# Altium integrated library Analog Devices Data Converters Digital-to-Analog Converters.IntLib: 2231 symbols (part 178 of 181)
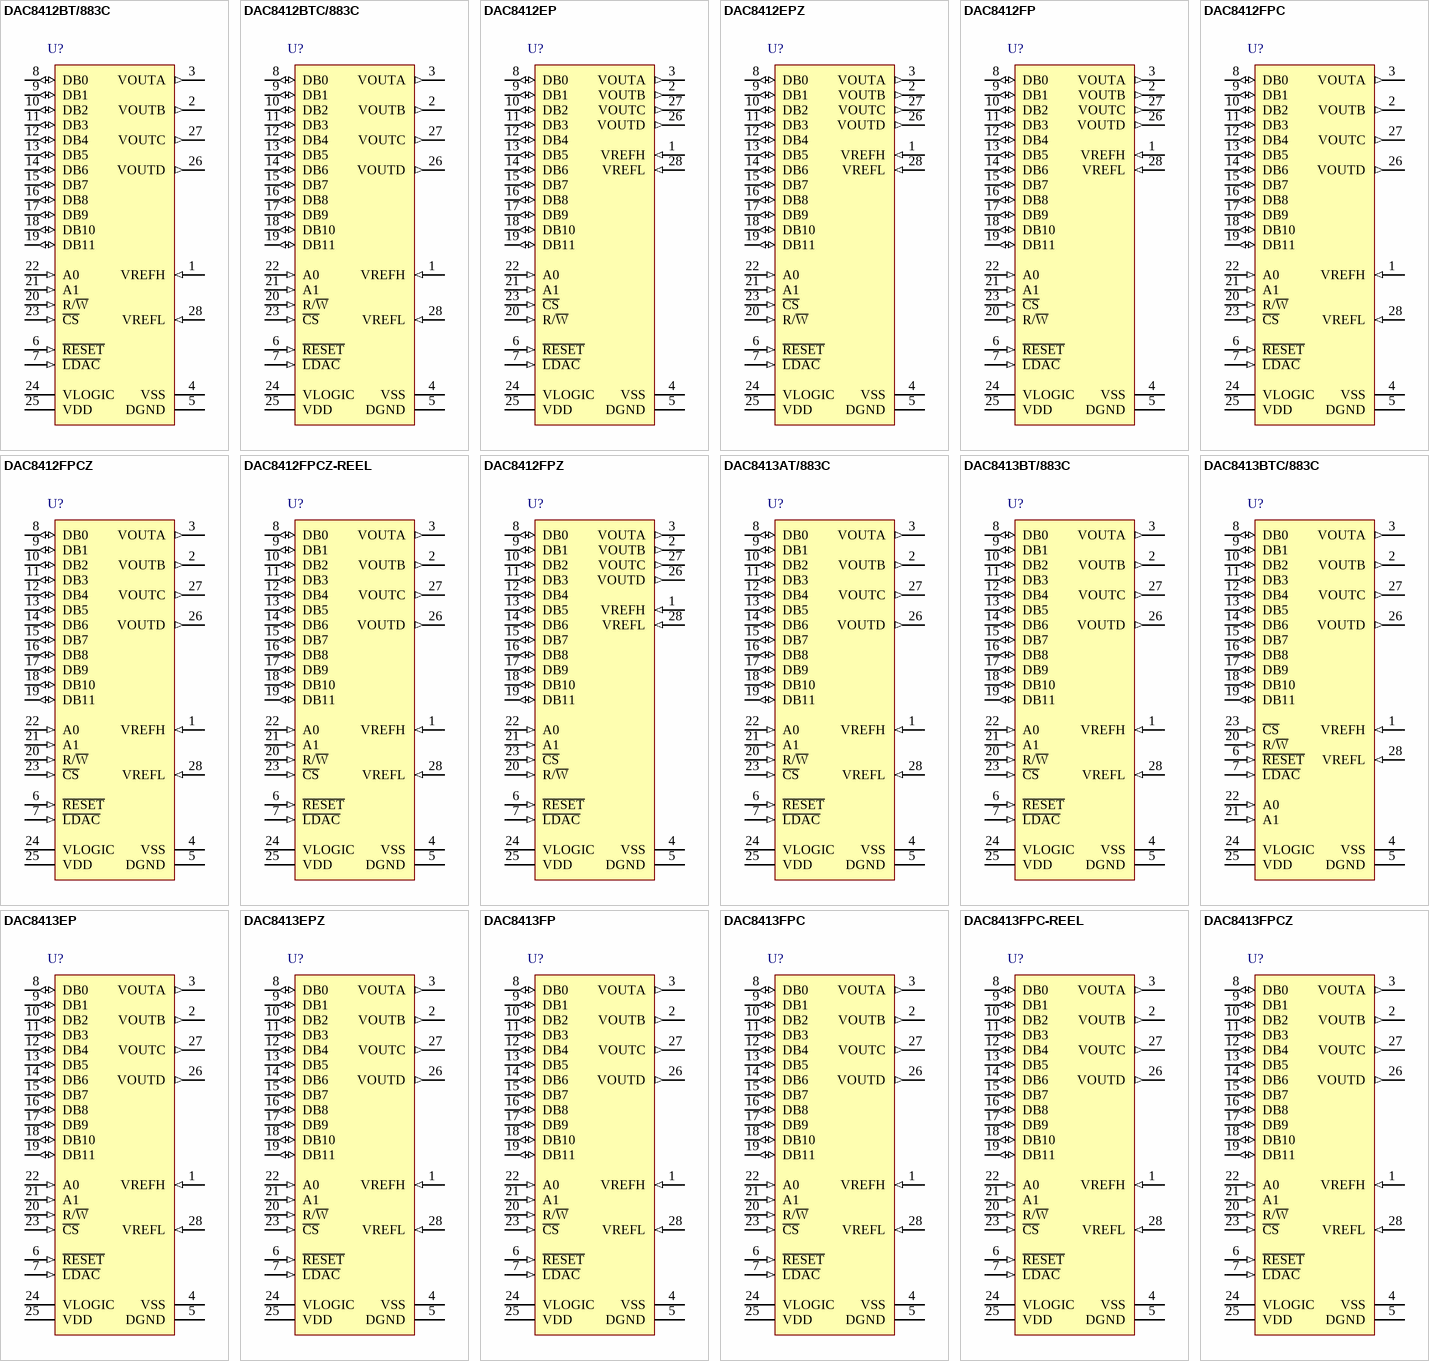
[diagram p291: symbols DAC8412BT/883C to DAC8413FPCZ]

## DAC8412BTC/883C
designator U?
Quad 12-Bit Voltage Output Digital-to-Analog Converter with Readback, -55 to +125 degC, E-28-1, Tube; Generic Part Number: DAC8412; Manufacturer: Analog Devices; PartNumber: DAC8412BTC/883C; # DAC Outputs: 4; Max V+: 15.75V; Op Pwr Diss: 330mW; Resolution (Bits): 12; Settling Time: 6µs; Single Supply: No; DatasheetVersion: Rev.F; PackageVersion: 022106-A; PackageReference: E-28-1; PackageDescription: 28-Terminal Ceramic Leadless Chip Carrier [LCC]; Supplier 1: Newark; Supplier Part Number 1: 30M3149; Supplier 2: Mouser; Supplier Part Number 2: 584-DAC8412BTC883C; Packing: Tube; RoHS: N; Mounting Technology: Surface Mount; ComponentLink1Description: Manufacturer URL; ComponentLink1URL: http://www.analog.com/en/index.html; ComponentLink2Description: Datasheet; ComponentLink2URL: http://www.analog.com/static/imported-files/data_sheets/DAC8412_8413.pdf; ComponentLink3Description: Package Specification; ComponentLink3URL: http://www.analog.com/static/imported-files/packages/PKG_PDF/LCC(E)/E_28_1.pdf; ComponentLink4Description: Product URL; ComponentLink4URL: http://www.analog.com/en/digital-to-analog-converters/da-converters/dac8412/products/product.html
footprint E-28-1_N (Leadless Chip Carrier, 28-Leads, Body 11.4x11.4mm, Pitch 1.27mm, IPC Medium Density)
footprint E-28-1_L (Leadless Chip Carrier, 28-Leads, Body 11.4x11.4mm, Pitch 1.27mm, IPC High Density)
footprint E-28-1_M (Leadless Chip Carrier, 28-Leads, Body 11.4x11.4mm, Pitch 1.27mm, IPC Low Density)
pins: 1 VREFH (in) "High-Side DAC Reference Input.", 2 VOUTB (out) "DAC B Output.", 3 VOUTA (out) "DAC A Output.", 4 VSS (power) "Lower Rail Power Supply.", 5 DGND (power) "Digital Ground.", 6 ~{RESET} (in) "Reset Input and Output Registers to all 0s, Enabled at Active Low.", 7 ~{LDAC} (in) "Load Data to DAC, Enabled at Active Low.", 8 DB0 (io) "Data Bit 0, LSB.", 9 DB1 (io) "Data Bit 1.", 10 DB2 (io) "Data Bit 2.", 11 DB3 (io) "Data Bit 3.", 12 DB4 (io) "Data Bit 4.", 13 DB5 (io) "Data Bit 5.", 14 DB6 (io) "Data Bit 6.", 15 DB7 (io) "Data Bit 7.", 16 DB8 (io) "Data Bit 8.", 17 DB9 (io) "Data Bit 9.", 18 DB10 (io) "Data Bit 10.", 19 DB11 (io) "Data Bit 11, MSB.", 20 R/~{W} (in) "Active Low to Write Data to DAC. Active high to readback previous data at data bit pins with VLOGIC connected to 5 V.", 21 A1 (in) "Address Bit 1.", 22 A0 (in) "Address Bit 0.", 23 ~{CS} (in) "Chip Select, Enabled at Active Low.", 24 VLOGIC (power) "Voltage Supply for Readback Function. Can be open circuit if not used.", 25 VDD (power) "Upper Rail Power Supply.", 26 VOUTD (out) "DAC D Output.", 27 VOUTC (out) "DAC C Output.", 28 VREFL (in) "Low-Side DAC Reference Input."

## DAC8412EP
designator U?
Quad 12-Bit Voltage Output Digital-to-Analog Converter with Readback, -40 to +85 degC, N-28-2, Tube; Generic Part Number: DAC8412; Manufacturer: Analog Devices; PartNumber: DAC8412EP; # DAC Outputs: 4; Max V+: 15.75V; Op Pwr Diss: 330mW; Resolution (Bits): 12; Settling Time: 6µs; Single Supply: No; DatasheetVersion: Rev.F; PackageVersion: 071006-A; PackageReference: N-28-2; PackageDescription: 28-Lead Plastic Dual In-Line Package [PDIP]; Supplier 1: Digi-Key; Supplier Part Number 1: DAC8412EP-ND; Supplier 2: Mouser; Supplier Part Number 2: 584-DAC8412EP; Packing: Tube; RoHS: N; Mounting Technology: Through Hole; Code_JEDEC: MS-011; ComponentLink1Description: Manufacturer URL; ComponentLink1URL: http://www.analog.com/en/index.html; ComponentLink2Description: Datasheet; ComponentLink2URL: http://www.analog.com/static/imported-files/data_sheets/DAC8412_8413.pdf; ComponentLink3Description: Package Specification; ComponentLink3URL: http://www.analog.com/static/imported-files/packages/50849324123784N_28_2.pdf; ComponentLink4Description: Product URL; ComponentLink4URL: http://www.analog.com/en/digital-to-analog-converters/da-converters/dac8412/products/product.html
footprint N-28-2 (DIP, 28-Leads, Row Spacing 15.55mm, Pitch 2.54mm, Body 37.4x13.5mm)
pins: 1 VREFH (in) "High-Side DAC Reference Input.", 2 VOUTB (out) "DAC B Output.", 3 VOUTA (out) "DAC A Output.", 4 VSS (power) "Lower Rail Power Supply.", 5 DGND (power) "Digital Ground.", 6 ~{RESET} (in) "Reset Input and Output Registers to all 0s, Enabled at Active Low.", 7 ~{LDAC} (in) "Load Data to DAC, Enabled at Active Low.", 8 DB0 (io) "Data Bit 0, LSB.", 9 DB1 (io) "Data Bit 1.", 10 DB2 (io) "Data Bit 2.", 11 DB3 (io) "Data Bit 3.", 12 DB4 (io) "Data Bit 4.", 13 DB5 (io) "Data Bit 5.", 14 DB6 (io) "Data Bit 6.", 15 DB7 (io) "Data Bit 7.", 16 DB8 (io) "Data Bit 8.", 17 DB9 (io) "Data Bit 9.", 18 DB10 (io) "Data Bit 10.", 19 DB11 (io) "Data Bit 11, MSB.", 20 R/~{W} (in) "Active Low to Write Data to DAC. Active high to readback previous data at data bit pins with VLOGIC connected to 5 V.", 21 A1 (in) "Address Bit 1.", 22 A0 (in) "Address Bit 0.", 23 ~{CS} (in) "Chip Select, Enabled at Active Low.", 24 VLOGIC (power) "Voltage Supply for Readback Function. Can be open circuit if not used.", 25 VDD (power) "Upper Rail Power Supply.", 26 VOUTD (out) "DAC D Output.", 27 VOUTC (out) "DAC C Output.", 28 VREFL (in) "Low-Side DAC Reference Input."

## DAC8412EPZ
designator U?
Quad 12-Bit Voltage Output Digital-to-Analog Converter with Readback, -40 to +85 degC, N-28-2, Pb-Free, Tube; Generic Part Number: DAC8412; Manufacturer: Analog Devices; PartNumber: DAC8412EPZ; # DAC Outputs: 4; Max V+: 15.75V; Op Pwr Diss: 330mW; Resolution (Bits): 12; Settling Time: 6µs; Single Supply: No; DatasheetVersion: Rev.F; PackageVersion: 071006-A; PackageReference: N-28-2; PackageDescription: 28-Lead Plastic Dual In-Line Package [PDIP]; Supplier 1: Digi-Key; Supplier Part Number 1: DAC8412EPZ-ND; Supplier 2: Mouser; Supplier Part Number 2: 584-DAC8412EPZ; Packing: Tube; RoHS: Y; Mounting Technology: Through Hole; Code_JEDEC: MS-011; ComponentLink1Description: Manufacturer URL; ComponentLink1URL: http://www.analog.com/en/index.html; ComponentLink2Description: Datasheet; ComponentLink2URL: http://www.analog.com/static/imported-files/data_sheets/DAC8412_8413.pdf; ComponentLink3Description: Package Specification; ComponentLink3URL: http://www.analog.com/static/imported-files/packages/50849324123784N_28_2.pdf; ComponentLink4Description: Product URL; ComponentLink4URL: http://www.analog.com/en/digital-to-analog-converters/da-converters/dac8412/products/product.html
footprint N-28-2 (DIP, 28-Leads, Row Spacing 15.55mm, Pitch 2.54mm, Body 37.4x13.5mm)
pins: 1 VREFH (in) "High-Side DAC Reference Input.", 2 VOUTB (out) "DAC B Output.", 3 VOUTA (out) "DAC A Output.", 4 VSS (power) "Lower Rail Power Supply.", 5 DGND (power) "Digital Ground.", 6 ~{RESET} (in) "Reset Input and Output Registers to all 0s, Enabled at Active Low.", 7 ~{LDAC} (in) "Load Data to DAC, Enabled at Active Low.", 8 DB0 (io) "Data Bit 0, LSB.", 9 DB1 (io) "Data Bit 1.", 10 DB2 (io) "Data Bit 2.", 11 DB3 (io) "Data Bit 3.", 12 DB4 (io) "Data Bit 4.", 13 DB5 (io) "Data Bit 5.", 14 DB6 (io) "Data Bit 6.", 15 DB7 (io) "Data Bit 7.", 16 DB8 (io) "Data Bit 8.", 17 DB9 (io) "Data Bit 9.", 18 DB10 (io) "Data Bit 10.", 19 DB11 (io) "Data Bit 11, MSB.", 20 R/~{W} (in) "Active Low to Write Data to DAC. Active high to readback previous data at data bit pins with VLOGIC connected to 5 V.", 21 A1 (in) "Address Bit 1.", 22 A0 (in) "Address Bit 0.", 23 ~{CS} (in) "Chip Select, Enabled at Active Low.", 24 VLOGIC (power) "Voltage Supply for Readback Function. Can be open circuit if not used.", 25 VDD (power) "Upper Rail Power Supply.", 26 VOUTD (out) "DAC D Output.", 27 VOUTC (out) "DAC C Output.", 28 VREFL (in) "Low-Side DAC Reference Input."

## DAC8412FP
designator U?
Quad 12-Bit Voltage Output Digital-to-Analog Converter with Readback, -40 to +85 degC, N-28-2, Tube; Generic Part Number: DAC8412; Manufacturer: Analog Devices; PartNumber: DAC8412FP; # DAC Outputs: 4; Max V+: 15.75V; Op Pwr Diss: 330mW; Resolution (Bits): 12; Settling Time: 6µs; Single Supply: No; DatasheetVersion: Rev.F; PackageVersion: 071006-A; PackageReference: N-28-2; PackageDescription: 28-Lead Plastic Dual In-Line Package [PDIP]; Supplier 1: Digi-Key; Supplier Part Number 1: DAC8412FP-ND; Supplier 2: Mouser; Supplier Part Number 2: 584-DAC8412FP; Packing: Tube; RoHS: N; Mounting Technology: Through Hole; Code_JEDEC: MS-011; ComponentLink1Description: Manufacturer URL; ComponentLink1URL: http://www.analog.com/en/index.html; ComponentLink2Description: Datasheet; ComponentLink2URL: http://www.analog.com/static/imported-files/data_sheets/DAC8412_8413.pdf; ComponentLink3Description: Package Specification; ComponentLink3URL: http://www.analog.com/static/imported-files/packages/50849324123784N_28_2.pdf; ComponentLink4Description: Product URL; ComponentLink4URL: http://www.analog.com/en/digital-to-analog-converters/da-converters/dac8412/products/product.html
footprint N-28-2 (DIP, 28-Leads, Row Spacing 15.55mm, Pitch 2.54mm, Body 37.4x13.5mm)
pins: 1 VREFH (in) "High-Side DAC Reference Input.", 2 VOUTB (out) "DAC B Output.", 3 VOUTA (out) "DAC A Output.", 4 VSS (power) "Lower Rail Power Supply.", 5 DGND (power) "Digital Ground.", 6 ~{RESET} (in) "Reset Input and Output Registers to all 0s, Enabled at Active Low.", 7 ~{LDAC} (in) "Load Data to DAC, Enabled at Active Low.", 8 DB0 (io) "Data Bit 0, LSB.", 9 DB1 (io) "Data Bit 1.", 10 DB2 (io) "Data Bit 2.", 11 DB3 (io) "Data Bit 3.", 12 DB4 (io) "Data Bit 4.", 13 DB5 (io) "Data Bit 5.", 14 DB6 (io) "Data Bit 6.", 15 DB7 (io) "Data Bit 7.", 16 DB8 (io) "Data Bit 8.", 17 DB9 (io) "Data Bit 9.", 18 DB10 (io) "Data Bit 10.", 19 DB11 (io) "Data Bit 11, MSB.", 20 R/~{W} (in) "Active Low to Write Data to DAC. Active high to readback previous data at data bit pins with VLOGIC connected to 5 V.", 21 A1 (in) "Address Bit 1.", 22 A0 (in) "Address Bit 0.", 23 ~{CS} (in) "Chip Select, Enabled at Active Low.", 24 VLOGIC (power) "Voltage Supply for Readback Function. Can be open circuit if not used.", 25 VDD (power) "Upper Rail Power Supply.", 26 VOUTD (out) "DAC D Output.", 27 VOUTC (out) "DAC C Output.", 28 VREFL (in) "Low-Side DAC Reference Input."

## DAC8412FPC
designator U?
Quad 12-Bit Voltage Output Digital-to-Analog Converter with Readback, -40 to +85 degC, P-28, Tube; Generic Part Number: DAC8412; Manufacturer: Analog Devices; PartNumber: DAC8412FPC; # DAC Outputs: 4; Max V+: 15.75V; Op Pwr Diss: 330mW; Resolution (Bits): 12; Settling Time: 6µs; Single Supply: No; DatasheetVersion: Rev.F; PackageVersion: 042508-A; PackageReference: P-28; PackageDescription: 28-Lead Plastic Leaded Chip Carrier [PLCC]; Supplier 1: Digi-Key; Supplier Part Number 1: DAC8412FPC-ND; Supplier 2: Newark; Supplier Part Number 2: 05F8025; Supplier 3: Mouser; Supplier Part Number 3: 584-DAC8412FPC; Packing: Tube; RoHS: N; Mounting Technology: Surface Mount; Code_JEDEC: MO-047-AB; ComponentLink1Description: Manufacturer URL; ComponentLink1URL: http://www.analog.com/en/index.html; ComponentLink2Description: Datasheet; ComponentLink2URL: http://www.analog.com/static/imported-files/data_sheets/DAC8412_8413.pdf; ComponentLink3Description: Package Specification; ComponentLink3URL: http://www.analog.com/static/imported-files/packages/PKG_PDF/PLCC(P)/P_28.pdf; ComponentLink4Description: Product URL; ComponentLink4URL: http://www.analog.com/en/digital-to-analog-converters/da-converters/dac8412/products/product.html
footprint P-28_N (Leaded Chip Carrier, 28-Leads, Body 11.5x11.5mm, Pitch 1.27mm, IPC Medium Density)
footprint P-28_L (Leaded Chip Carrier, 28-Leads, Body 11.5x11.5mm, Pitch 1.27mm, IPC High Density)
footprint P-28_M (Leaded Chip Carrier, 28-Leads, Body 11.5x11.5mm, Pitch 1.27mm, IPC Low Density)
pins: 1 VREFH (in) "High-Side DAC Reference Input.", 2 VOUTB (out) "DAC B Output.", 3 VOUTA (out) "DAC A Output.", 4 VSS (power) "Lower Rail Power Supply.", 5 DGND (power) "Digital Ground.", 6 ~{RESET} (in) "Reset Input and Output Registers to all 0s, Enabled at Active Low.", 7 ~{LDAC} (in) "Load Data to DAC, Enabled at Active Low.", 8 DB0 (io) "Data Bit 0, LSB.", 9 DB1 (io) "Data Bit 1.", 10 DB2 (io) "Data Bit 2.", 11 DB3 (io) "Data Bit 3.", 12 DB4 (io) "Data Bit 4.", 13 DB5 (io) "Data Bit 5.", 14 DB6 (io) "Data Bit 6.", 15 DB7 (io) "Data Bit 7.", 16 DB8 (io) "Data Bit 8.", 17 DB9 (io) "Data Bit 9.", 18 DB10 (io) "Data Bit 10.", 19 DB11 (io) "Data Bit 11, MSB.", 20 R/~{W} (in) "Active Low to Write Data to DAC. Active high to readback previous data at data bit pins with VLOGIC connected to 5 V.", 21 A1 (in) "Address Bit 1.", 22 A0 (in) "Address Bit 0.", 23 ~{CS} (in) "Chip Select, Enabled at Active Low.", 24 VLOGIC (power) "Voltage Supply for Readback Function. Can be open circuit if not used.", 25 VDD (power) "Upper Rail Power Supply.", 26 VOUTD (out) "DAC D Output.", 27 VOUTC (out) "DAC C Output.", 28 VREFL (in) "Low-Side DAC Reference Input."

## DAC8412FPCZ
designator U?
Quad 12-Bit Voltage Output Digital-to-Analog Converter with Readback, -40 to +85 degC, P-28, Pb-Free, Tube; Generic Part Number: DAC8412; Manufacturer: Analog Devices; PartNumber: DAC8412FPCZ; # DAC Outputs: 4; Max V+: 15.75V; Op Pwr Diss: 330mW; Resolution (Bits): 12; Settling Time: 6µs; Single Supply: No; DatasheetVersion: Rev.F; PackageVersion: 042508-A; PackageReference: P-28; PackageDescription: 28-Lead Plastic Leaded Chip Carrier [PLCC]; Supplier 1: Digi-Key; Supplier Part Number 1: DAC8412FPCZ-ND; Supplier 2: Farnell; Supplier Part Number 2: 1389171; Supplier 3: Newark; Supplier Part Number 3: 19M8958; Supplier 4: Mouser; Supplier Part Number 4: 584-DAC8412FPCZ; Packing: Tube; RoHS: Y; Mounting Technology: Surface Mount; Code_JEDEC: MO-047-AB; ComponentLink1Description: Manufacturer URL; ComponentLink1URL: http://www.analog.com/en/index.html; ComponentLink2Description: Datasheet; ComponentLink2URL: http://www.analog.com/static/imported-files/data_sheets/DAC8412_8413.pdf; ComponentLink3Description: Package Specification; ComponentLink3URL: http://www.analog.com/static/imported-files/packages/PKG_PDF/PLCC(P)/P_28.pdf; ComponentLink4Description: Product URL; ComponentLink4URL: http://www.analog.com/en/digital-to-analog-converters/da-converters/dac8412/products/product.html
footprint P-28_N (Leaded Chip Carrier, 28-Leads, Body 11.5x11.5mm, Pitch 1.27mm, IPC Medium Density)
footprint P-28_L (Leaded Chip Carrier, 28-Leads, Body 11.5x11.5mm, Pitch 1.27mm, IPC High Density)
footprint P-28_M (Leaded Chip Carrier, 28-Leads, Body 11.5x11.5mm, Pitch 1.27mm, IPC Low Density)
pins: 1 VREFH (in) "High-Side DAC Reference Input.", 2 VOUTB (out) "DAC B Output.", 3 VOUTA (out) "DAC A Output.", 4 VSS (power) "Lower Rail Power Supply.", 5 DGND (power) "Digital Ground.", 6 ~{RESET} (in) "Reset Input and Output Registers to all 0s, Enabled at Active Low.", 7 ~{LDAC} (in) "Load Data to DAC, Enabled at Active Low.", 8 DB0 (io) "Data Bit 0, LSB.", 9 DB1 (io) "Data Bit 1.", 10 DB2 (io) "Data Bit 2.", 11 DB3 (io) "Data Bit 3.", 12 DB4 (io) "Data Bit 4.", 13 DB5 (io) "Data Bit 5.", 14 DB6 (io) "Data Bit 6.", 15 DB7 (io) "Data Bit 7.", 16 DB8 (io) "Data Bit 8.", 17 DB9 (io) "Data Bit 9.", 18 DB10 (io) "Data Bit 10.", 19 DB11 (io) "Data Bit 11, MSB.", 20 R/~{W} (in) "Active Low to Write Data to DAC. Active high to readback previous data at data bit pins with VLOGIC connected to 5 V.", 21 A1 (in) "Address Bit 1.", 22 A0 (in) "Address Bit 0.", 23 ~{CS} (in) "Chip Select, Enabled at Active Low.", 24 VLOGIC (power) "Voltage Supply for Readback Function. Can be open circuit if not used.", 25 VDD (power) "Upper Rail Power Supply.", 26 VOUTD (out) "DAC D Output.", 27 VOUTC (out) "DAC C Output.", 28 VREFL (in) "Low-Side DAC Reference Input."

## DAC8412FPCZ-REEL
designator U?
Quad 12-Bit Voltage Output Digital-to-Analog Converter with Readback, -40 to +85 degC, P-28, Pb-Free, Reel; Generic Part Number: DAC8412; Manufacturer: Analog Devices; PartNumber: DAC8412FPCZ-REEL; # DAC Outputs: 4; Max V+: 15.75V; Op Pwr Diss: 330mW; Resolution (Bits): 12; Settling Time: 6µs; Single Supply: No; DatasheetVersion: Rev.F; PackageVersion: 042508-A; PackageReference: P-28; PackageDescription: 28-Lead Plastic Leaded Chip Carrier [PLCC]; Supplier 1: Digi-Key; Supplier Part Number 1: DAC8412FPCZ-REEL-ND; Supplier 2: Newark; Supplier Part Number 2: 12M9669; Supplier 3: Mouser; Supplier Part Number 3: 584-DAC8412FPCZ-R; Packing: Reel; RoHS: Y; Mounting Technology: Surface Mount; Code_JEDEC: MO-047-AB; ComponentLink1Description: Manufacturer URL; ComponentLink1URL: http://www.analog.com/en/index.html; ComponentLink2Description: Datasheet; ComponentLink2URL: http://www.analog.com/static/imported-files/data_sheets/DAC8412_8413.pdf; ComponentLink3Description: Package Specification; ComponentLink3URL: http://www.analog.com/static/imported-files/packages/PKG_PDF/PLCC(P)/P_28.pdf; ComponentLink4Description: Product URL; ComponentLink4URL: http://www.analog.com/en/digital-to-analog-converters/da-converters/dac8412/products/product.html
footprint P-28_N (Leaded Chip Carrier, 28-Leads, Body 11.5x11.5mm, Pitch 1.27mm, IPC Medium Density)
footprint P-28_L (Leaded Chip Carrier, 28-Leads, Body 11.5x11.5mm, Pitch 1.27mm, IPC High Density)
footprint P-28_M (Leaded Chip Carrier, 28-Leads, Body 11.5x11.5mm, Pitch 1.27mm, IPC Low Density)
pins: 1 VREFH (in) "High-Side DAC Reference Input.", 2 VOUTB (out) "DAC B Output.", 3 VOUTA (out) "DAC A Output.", 4 VSS (power) "Lower Rail Power Supply.", 5 DGND (power) "Digital Ground.", 6 ~{RESET} (in) "Reset Input and Output Registers to all 0s, Enabled at Active Low.", 7 ~{LDAC} (in) "Load Data to DAC, Enabled at Active Low.", 8 DB0 (io) "Data Bit 0, LSB.", 9 DB1 (io) "Data Bit 1.", 10 DB2 (io) "Data Bit 2.", 11 DB3 (io) "Data Bit 3.", 12 DB4 (io) "Data Bit 4.", 13 DB5 (io) "Data Bit 5.", 14 DB6 (io) "Data Bit 6.", 15 DB7 (io) "Data Bit 7.", 16 DB8 (io) "Data Bit 8.", 17 DB9 (io) "Data Bit 9.", 18 DB10 (io) "Data Bit 10.", 19 DB11 (io) "Data Bit 11, MSB.", 20 R/~{W} (in) "Active Low to Write Data to DAC. Active high to readback previous data at data bit pins with VLOGIC connected to 5 V.", 21 A1 (in) "Address Bit 1.", 22 A0 (in) "Address Bit 0.", 23 ~{CS} (in) "Chip Select, Enabled at Active Low.", 24 VLOGIC (power) "Voltage Supply for Readback Function. Can be open circuit if not used.", 25 VDD (power) "Upper Rail Power Supply.", 26 VOUTD (out) "DAC D Output.", 27 VOUTC (out) "DAC C Output.", 28 VREFL (in) "Low-Side DAC Reference Input."

## DAC8412FPZ
designator U?
Quad 12-Bit Voltage Output Digital-to-Analog Converter with Readback, -40 to +85 degC, N-28-2, Pb-Free, Tube; Generic Part Number: DAC8412; Manufacturer: Analog Devices; PartNumber: DAC8412FPZ; # DAC Outputs: 4; Max V+: 15.75V; Op Pwr Diss: 330mW; Resolution (Bits): 12; Settling Time: 6µs; Single Supply: No; DatasheetVersion: Rev.F; PackageVersion: 071006-A; PackageReference: N-28-2; PackageDescription: 28-Lead Plastic Dual In-Line Package [PDIP]; Supplier 1: Digi-Key; Supplier Part Number 1: DAC8412FPZ-ND; Supplier 2: Farnell; Supplier Part Number 2: 1079431; Supplier 3: Newark; Supplier Part Number 3: 59K7941; Supplier 4: Mouser; Supplier Part Number 4: 584-DAC8412FPZ; Packing: Tube; RoHS: Y; Mounting Technology: Through Hole; Code_JEDEC: MS-011; ComponentLink1Description: Manufacturer URL; ComponentLink1URL: http://www.analog.com/en/index.html; ComponentLink2Description: Datasheet; ComponentLink2URL: http://www.analog.com/static/imported-files/data_sheets/DAC8412_8413.pdf; ComponentLink3Description: Package Specification; ComponentLink3URL: http://www.analog.com/static/imported-files/packages/50849324123784N_28_2.pdf; ComponentLink4Description: Product URL; ComponentLink4URL: http://www.analog.com/en/digital-to-analog-converters/da-converters/dac8412/products/product.html
footprint N-28-2 (DIP, 28-Leads, Row Spacing 15.55mm, Pitch 2.54mm, Body 37.4x13.5mm)
pins: 1 VREFH (in) "High-Side DAC Reference Input.", 2 VOUTB (out) "DAC B Output.", 3 VOUTA (out) "DAC A Output.", 4 VSS (power) "Lower Rail Power Supply.", 5 DGND (power) "Digital Ground.", 6 ~{RESET} (in) "Reset Input and Output Registers to all 0s, Enabled at Active Low.", 7 ~{LDAC} (in) "Load Data to DAC, Enabled at Active Low.", 8 DB0 (io) "Data Bit 0, LSB.", 9 DB1 (io) "Data Bit 1.", 10 DB2 (io) "Data Bit 2.", 11 DB3 (io) "Data Bit 3.", 12 DB4 (io) "Data Bit 4.", 13 DB5 (io) "Data Bit 5.", 14 DB6 (io) "Data Bit 6.", 15 DB7 (io) "Data Bit 7.", 16 DB8 (io) "Data Bit 8.", 17 DB9 (io) "Data Bit 9.", 18 DB10 (io) "Data Bit 10.", 19 DB11 (io) "Data Bit 11, MSB.", 20 R/~{W} (in) "Active Low to Write Data to DAC. Active high to readback previous data at data bit pins with VLOGIC connected to 5 V.", 21 A1 (in) "Address Bit 1.", 22 A0 (in) "Address Bit 0.", 23 ~{CS} (in) "Chip Select, Enabled at Active Low.", 24 VLOGIC (power) "Voltage Supply for Readback Function. Can be open circuit if not used.", 25 VDD (power) "Upper Rail Power Supply.", 26 VOUTD (out) "DAC D Output.", 27 VOUTC (out) "DAC C Output.", 28 VREFL (in) "Low-Side DAC Reference Input."

## DAC8413AT/883C
designator U?
Quad 12-Bit Voltage Output Digital-to-Analog Converter with Readback, -55 to +125 degC, Q-28-2, Tube; Generic Part Number: DAC8413; Manufacturer: Analog Devices; PartNumber: DAC8413AT/883C; # DAC Outputs: 4; Max V+: 15.75V; Op Pwr Diss: 330mW; Resolution (Bits): 12; Settling Time: 6µs; Single Supply: Yes; DatasheetVersion: Rev.F; PackageVersion: 030106-A; PackageReference: Q-28-2; PackageDescription: 28-Lead Ceramic Dual In-Line Package [CERDIP]; Supplier 1: Mouser; Supplier Part Number 1: 584-DAC8413AT883C; Packing: Tube; RoHS: N; Mounting Technology: Through Hole; ComponentLink1Description: Manufacturer URL; ComponentLink1URL: http://www.analog.com/en/index.html; ComponentLink2Description: Datasheet; ComponentLink2URL: http://www.analog.com/static/imported-files/data_sheets/DAC8412_8413.pdf; ComponentLink3Description: Package Specification; ComponentLink3URL: http://www.analog.com/static/imported-files/packages/4045339666127361303Q_28_2.pdf; ComponentLink4Description: Product URL; ComponentLink4URL: http://www.analog.com/en/digital-to-analog-converters/da-converters/dac8413/products/product.html
footprint Q-28-2 (DIP, 28-Leads, Row Spacing 15.24mm, Pitch 2.54mm, Body 37.2x14.1mm)
pins: 1 VREFH (in) "High-Side DAC Reference Input.", 2 VOUTB (out) "DAC B Output.", 3 VOUTA (out) "DAC A Output.", 4 VSS (power) "Lower Rail Power Supply.", 5 DGND (power) "Digital Ground.", 6 ~{RESET} (in) "Reset Input and Output Registers to all 0s, Enabled at Active Low.", 7 ~{LDAC} (in) "Load Data to DAC, Enabled at Active Low.", 8 DB0 (io) "Data Bit 0, LSB.", 9 DB1 (io) "Data Bit 1.", 10 DB2 (io) "Data Bit 2.", 11 DB3 (io) "Data Bit 3.", 12 DB4 (io) "Data Bit 4.", 13 DB5 (io) "Data Bit 5.", 14 DB6 (io) "Data Bit 6.", 15 DB7 (io) "Data Bit 7.", 16 DB8 (io) "Data Bit 8.", 17 DB9 (io) "Data Bit 9.", 18 DB10 (io) "Data Bit 10.", 19 DB11 (io) "Data Bit 11, MSB.", 20 R/~{W} (in) "Active Low to Write Data to DAC. Active high to readback previous data at data bit pins with VLOGIC connected to 5 V.", 21 A1 (in) "Address Bit 1.", 22 A0 (in) "Address Bit 0.", 23 ~{CS} (in) "Chip Select, Enabled at Active Low.", 24 VLOGIC (power) "Voltage Supply for Readback Function. Can be open circuit if not used.", 25 VDD (power) "Upper Rail Power Supply.", 26 VOUTD (out) "DAC D Output.", 27 VOUTC (out) "DAC C Output.", 28 VREFL (in) "Low-Side DAC Reference Input."

## DAC8413BT/883C
designator U?
Quad 12-Bit Voltage Output Digital-to-Analog Converter with Readback, -55 to +125 degC, Q-28-2, Tube; Generic Part Number: DAC8413; Manufacturer: Analog Devices; PartNumber: DAC8413BT/883C; # DAC Outputs: 4; Max V+: 15.75V; Op Pwr Diss: 330mW; Resolution (Bits): 12; Settling Time: 6µs; Single Supply: Yes; DatasheetVersion: Rev.F; PackageVersion: 030106-A; PackageReference: Q-28-2; PackageDescription: 28-Lead Ceramic Dual In-Line Package [CERDIP]; Supplier 1: Mouser; Supplier Part Number 1: 584-DAC8413BT883C; Packing: Tube; RoHS: N; Mounting Technology: Through Hole; ComponentLink1Description: Manufacturer URL; ComponentLink1URL: http://www.analog.com/en/index.html; ComponentLink2Description: Datasheet; ComponentLink2URL: http://www.analog.com/static/imported-files/data_sheets/DAC8412_8413.pdf; ComponentLink3Description: Package Specification; ComponentLink3URL: http://www.analog.com/static/imported-files/packages/4045339666127361303Q_28_2.pdf; ComponentLink4Description: Product URL; ComponentLink4URL: http://www.analog.com/en/digital-to-analog-converters/da-converters/dac8413/products/product.html
footprint Q-28-2 (DIP, 28-Leads, Row Spacing 15.24mm, Pitch 2.54mm, Body 37.2x14.1mm)
pins: 1 VREFH (in) "High-Side DAC Reference Input.", 2 VOUTB (out) "DAC B Output.", 3 VOUTA (out) "DAC A Output.", 4 VSS (power) "Lower Rail Power Supply.", 5 DGND (power) "Digital Ground.", 6 ~{RESET} (in) "Reset Input and Output Registers to all 0s, Enabled at Active Low.", 7 ~{LDAC} (in) "Load Data to DAC, Enabled at Active Low.", 8 DB0 (io) "Data Bit 0, LSB.", 9 DB1 (io) "Data Bit 1.", 10 DB2 (io) "Data Bit 2.", 11 DB3 (io) "Data Bit 3.", 12 DB4 (io) "Data Bit 4.", 13 DB5 (io) "Data Bit 5.", 14 DB6 (io) "Data Bit 6.", 15 DB7 (io) "Data Bit 7.", 16 DB8 (io) "Data Bit 8.", 17 DB9 (io) "Data Bit 9.", 18 DB10 (io) "Data Bit 10.", 19 DB11 (io) "Data Bit 11, MSB.", 20 R/~{W} (in) "Active Low to Write Data to DAC. Active high to readback previous data at data bit pins with VLOGIC connected to 5 V.", 21 A1 (in) "Address Bit 1.", 22 A0 (in) "Address Bit 0.", 23 ~{CS} (in) "Chip Select, Enabled at Active Low.", 24 VLOGIC (power) "Voltage Supply for Readback Function. Can be open circuit if not used.", 25 VDD (power) "Upper Rail Power Supply.", 26 VOUTD (out) "DAC D Output.", 27 VOUTC (out) "DAC C Output.", 28 VREFL (in) "Low-Side DAC Reference Input."

## DAC8413BTC/883C
designator U?
Quad 12-Bit Voltage Output Digital-to-Analog Converter with Readback, -55 to +125 degC, E-28-1, Tube; Generic Part Number: DAC8413; Manufacturer: Analog Devices; PartNumber: DAC8413BTC/883C; # DAC Outputs: 4; Max V+: 15.75V; Op Pwr Diss: 330mW; Resolution (Bits): 12; Settling Time: 6µs; Single Supply: Yes; DatasheetVersion: Rev.F; PackageVersion: 022106-A; PackageReference: E-28-1; PackageDescription: 28-Terminal Ceramic Leadless Chip Carrier [LCC]; Supplier 1: Mouser; Supplier Part Number 1: 584-DAC8413BTC883C; Packing: Tube; RoHS: N; Mounting Technology: Surface Mount; ComponentLink1Description: Manufacturer URL; ComponentLink1URL: http://www.analog.com/en/index.html; ComponentLink2Description: Datasheet; ComponentLink2URL: http://www.analog.com/static/imported-files/data_sheets/DAC8412_8413.pdf; ComponentLink3Description: Package Specification; ComponentLink3URL: http://www.analog.com/static/imported-files/packages/PKG_PDF/LCC(E)/E_28_1.pdf; ComponentLink4Description: Product URL; ComponentLink4URL: http://www.analog.com/en/digital-to-analog-converters/da-converters/dac8413/products/product.html
footprint E-28-1_N (Leadless Chip Carrier, 28-Leads, Body 11.4x11.4mm, Pitch 1.27mm, IPC Medium Density)
footprint E-28-1_L (Leadless Chip Carrier, 28-Leads, Body 11.4x11.4mm, Pitch 1.27mm, IPC High Density)
footprint E-28-1_M (Leadless Chip Carrier, 28-Leads, Body 11.4x11.4mm, Pitch 1.27mm, IPC Low Density)
pins: 1 VREFH (in) "High-Side DAC Reference Input.", 2 VOUTB (out) "DAC B Output.", 3 VOUTA (out) "DAC A Output.", 4 VSS (power) "Lower Rail Power Supply.", 5 DGND (power) "Digital Ground.", 6 ~{RESET} (in) "Reset Input and Output Registers to all 0s, Enabled at Active Low.", 7 ~{LDAC} (in) "Load Data to DAC, Enabled at Active Low.", 8 DB0 (io) "Data Bit 0, LSB.", 9 DB1 (io) "Data Bit 1.", 10 DB2 (io) "Data Bit 2.", 11 DB3 (io) "Data Bit 3.", 12 DB4 (io) "Data Bit 4.", 13 DB5 (io) "Data Bit 5.", 14 DB6 (io) "Data Bit 6.", 15 DB7 (io) "Data Bit 7.", 16 DB8 (io) "Data Bit 8.", 17 DB9 (io) "Data Bit 9.", 18 DB10 (io) "Data Bit 10.", 19 DB11 (io) "Data Bit 11, MSB.", 20 R/~{W} (in) "Active Low to Write Data to DAC. Active high to readback previous data at data bit pins with VLOGIC connected to 5 V.", 21 A1 (in) "Address Bit 1.", 22 A0 (in) "Address Bit 0.", 23 ~{CS} (in) "Chip Select, Enabled at Active Low.", 24 VLOGIC (power) "Voltage Supply for Readback Function. Can be open circuit if not used.", 25 VDD (power) "Upper Rail Power Supply.", 26 VOUTD (out) "DAC D Output.", 27 VOUTC (out) "DAC C Output.", 28 VREFL (in) "Low-Side DAC Reference Input."

## DAC8413EP
designator U?
Quad 12-Bit Voltage Output Digital-to-Analog Converter with Readback, -40 to +85 degC, N-28-2, Tube; Generic Part Number: DAC8413; Manufacturer: Analog Devices; PartNumber: DAC8413EP; # DAC Outputs: 4; Max V+: 15.75V; Op Pwr Diss: 330mW; Resolution (Bits): 12; Settling Time: 6µs; Single Supply: Yes; DatasheetVersion: Rev.F; PackageVersion: 071006-A; PackageReference: N-28-2; PackageDescription: 28-Lead Plastic Dual In-Line Package [PDIP]; Supplier 1: Digi-Key; Supplier Part Number 1: DAC8413EP-ND; Supplier 2: Mouser; Supplier Part Number 2: 584-DAC8413EP; Packing: Tube; RoHS: N; Mounting Technology: Through Hole; Code_JEDEC: MS-011; ComponentLink1Description: Manufacturer URL; ComponentLink1URL: http://www.analog.com/en/index.html; ComponentLink2Description: Datasheet; ComponentLink2URL: http://www.analog.com/static/imported-files/data_sheets/DAC8412_8413.pdf; ComponentLink3Description: Package Specification; ComponentLink3URL: http://www.analog.com/static/imported-files/packages/50849324123784N_28_2.pdf; ComponentLink4Description: Product URL; ComponentLink4URL: http://www.analog.com/en/digital-to-analog-converters/da-converters/dac8413/products/product.html
footprint N-28-2 (DIP, 28-Leads, Row Spacing 15.55mm, Pitch 2.54mm, Body 37.4x13.5mm)
pins: 1 VREFH (in) "High-Side DAC Reference Input.", 2 VOUTB (out) "DAC B Output.", 3 VOUTA (out) "DAC A Output.", 4 VSS (power) "Lower Rail Power Supply.", 5 DGND (power) "Digital Ground.", 6 ~{RESET} (in) "Reset Input and Output Registers to all 0s, Enabled at Active Low.", 7 ~{LDAC} (in) "Load Data to DAC, Enabled at Active Low.", 8 DB0 (io) "Data Bit 0, LSB.", 9 DB1 (io) "Data Bit 1.", 10 DB2 (io) "Data Bit 2.", 11 DB3 (io) "Data Bit 3.", 12 DB4 (io) "Data Bit 4.", 13 DB5 (io) "Data Bit 5.", 14 DB6 (io) "Data Bit 6.", 15 DB7 (io) "Data Bit 7.", 16 DB8 (io) "Data Bit 8.", 17 DB9 (io) "Data Bit 9.", 18 DB10 (io) "Data Bit 10.", 19 DB11 (io) "Data Bit 11, MSB.", 20 R/~{W} (in) "Active Low to Write Data to DAC. Active high to readback previous data at data bit pins with VLOGIC connected to 5 V.", 21 A1 (in) "Address Bit 1.", 22 A0 (in) "Address Bit 0.", 23 ~{CS} (in) "Chip Select, Enabled at Active Low.", 24 VLOGIC (power) "Voltage Supply for Readback Function. Can be open circuit if not used.", 25 VDD (power) "Upper Rail Power Supply.", 26 VOUTD (out) "DAC D Output.", 27 VOUTC (out) "DAC C Output.", 28 VREFL (in) "Low-Side DAC Reference Input."

## DAC8413EPZ
designator U?
Quad 12-Bit Voltage Output Digital-to-Analog Converter with Readback, -40 to +85 degC, N-28-2, Pb-Free, Tube; Generic Part Number: DAC8413; Manufacturer: Analog Devices; PartNumber: DAC8413EPZ; # DAC Outputs: 4; Max V+: 15.75V; Op Pwr Diss: 330mW; Resolution (Bits): 12; Settling Time: 6µs; Single Supply: Yes; DatasheetVersion: Rev.F; PackageVersion: 071006-A; PackageReference: N-28-2; PackageDescription: 28-Lead Plastic Dual In-Line Package [PDIP]; Supplier 1: Digi-Key; Supplier Part Number 1: DAC8413EPZ-ND; Supplier 2: Mouser; Supplier Part Number 2: 584-DAC8413EPZ; Packing: Tube; RoHS: Y; Mounting Technology: Through Hole; Code_JEDEC: MS-011; ComponentLink1Description: Manufacturer URL; ComponentLink1URL: http://www.analog.com/en/index.html; ComponentLink2Description: Datasheet; ComponentLink2URL: http://www.analog.com/static/imported-files/data_sheets/DAC8412_8413.pdf; ComponentLink3Description: Package Specification; ComponentLink3URL: http://www.analog.com/static/imported-files/packages/50849324123784N_28_2.pdf; ComponentLink4Description: Product URL; ComponentLink4URL: http://www.analog.com/en/digital-to-analog-converters/da-converters/dac8413/products/product.html
footprint N-28-2 (DIP, 28-Leads, Row Spacing 15.55mm, Pitch 2.54mm, Body 37.4x13.5mm)
pins: 1 VREFH (in) "High-Side DAC Reference Input.", 2 VOUTB (out) "DAC B Output.", 3 VOUTA (out) "DAC A Output.", 4 VSS (power) "Lower Rail Power Supply.", 5 DGND (power) "Digital Ground.", 6 ~{RESET} (in) "Reset Input and Output Registers to all 0s, Enabled at Active Low.", 7 ~{LDAC} (in) "Load Data to DAC, Enabled at Active Low.", 8 DB0 (io) "Data Bit 0, LSB.", 9 DB1 (io) "Data Bit 1.", 10 DB2 (io) "Data Bit 2.", 11 DB3 (io) "Data Bit 3.", 12 DB4 (io) "Data Bit 4.", 13 DB5 (io) "Data Bit 5.", 14 DB6 (io) "Data Bit 6.", 15 DB7 (io) "Data Bit 7.", 16 DB8 (io) "Data Bit 8.", 17 DB9 (io) "Data Bit 9.", 18 DB10 (io) "Data Bit 10.", 19 DB11 (io) "Data Bit 11, MSB.", 20 R/~{W} (in) "Active Low to Write Data to DAC. Active high to readback previous data at data bit pins with VLOGIC connected to 5 V.", 21 A1 (in) "Address Bit 1.", 22 A0 (in) "Address Bit 0.", 23 ~{CS} (in) "Chip Select, Enabled at Active Low.", 24 VLOGIC (power) "Voltage Supply for Readback Function. Can be open circuit if not used.", 25 VDD (power) "Upper Rail Power Supply.", 26 VOUTD (out) "DAC D Output.", 27 VOUTC (out) "DAC C Output.", 28 VREFL (in) "Low-Side DAC Reference Input."

## DAC8413FP
designator U?
Quad 12-Bit Voltage Output Digital-to-Analog Converter with Readback, -40 to +85 degC, N-28-2, Tube; Generic Part Number: DAC8413; Manufacturer: Analog Devices; PartNumber: DAC8413FP; # DAC Outputs: 4; Max V+: 15.75V; Op Pwr Diss: 330mW; Resolution (Bits): 12; Settling Time: 6µs; Single Supply: Yes; DatasheetVersion: Rev.F; PackageVersion: 071006-A; PackageReference: N-28-2; PackageDescription: 28-Lead Plastic Dual In-Line Package [PDIP]; Supplier 1: Digi-Key; Supplier Part Number 1: DAC8413FP-ND; Supplier 2: Mouser; Supplier Part Number 2: 584-DAC8413FP; Packing: Tube; RoHS: N; Mounting Technology: Through Hole; Code_JEDEC: MS-011; ComponentLink1Description: Manufacturer URL; ComponentLink1URL: http://www.analog.com/en/index.html; ComponentLink2Description: Datasheet; ComponentLink2URL: http://www.analog.com/static/imported-files/data_sheets/DAC8412_8413.pdf; ComponentLink3Description: Package Specification; ComponentLink3URL: http://www.analog.com/static/imported-files/packages/50849324123784N_28_2.pdf; ComponentLink4Description: Product URL; ComponentLink4URL: http://www.analog.com/en/digital-to-analog-converters/da-converters/dac8413/products/product.html
footprint N-28-2 (DIP, 28-Leads, Row Spacing 15.55mm, Pitch 2.54mm, Body 37.4x13.5mm)
pins: 1 VREFH (in) "High-Side DAC Reference Input.", 2 VOUTB (out) "DAC B Output.", 3 VOUTA (out) "DAC A Output.", 4 VSS (power) "Lower Rail Power Supply.", 5 DGND (power) "Digital Ground.", 6 ~{RESET} (in) "Reset Input and Output Registers to all 0s, Enabled at Active Low.", 7 ~{LDAC} (in) "Load Data to DAC, Enabled at Active Low.", 8 DB0 (io) "Data Bit 0, LSB.", 9 DB1 (io) "Data Bit 1.", 10 DB2 (io) "Data Bit 2.", 11 DB3 (io) "Data Bit 3.", 12 DB4 (io) "Data Bit 4.", 13 DB5 (io) "Data Bit 5.", 14 DB6 (io) "Data Bit 6.", 15 DB7 (io) "Data Bit 7.", 16 DB8 (io) "Data Bit 8.", 17 DB9 (io) "Data Bit 9.", 18 DB10 (io) "Data Bit 10.", 19 DB11 (io) "Data Bit 11, MSB.", 20 R/~{W} (in) "Active Low to Write Data to DAC. Active high to readback previous data at data bit pins with VLOGIC connected to 5 V.", 21 A1 (in) "Address Bit 1.", 22 A0 (in) "Address Bit 0.", 23 ~{CS} (in) "Chip Select, Enabled at Active Low.", 24 VLOGIC (power) "Voltage Supply for Readback Function. Can be open circuit if not used.", 25 VDD (power) "Upper Rail Power Supply.", 26 VOUTD (out) "DAC D Output.", 27 VOUTC (out) "DAC C Output.", 28 VREFL (in) "Low-Side DAC Reference Input."

## DAC8413FPC
designator U?
Quad 12-Bit Voltage Output Digital-to-Analog Converter with Readback, -40 to +85 degC, P-28, Tube; Generic Part Number: DAC8413; Manufacturer: Analog Devices; PartNumber: DAC8413FPC; # DAC Outputs: 4; Max V+: 15.75V; Op Pwr Diss: 330mW; Resolution (Bits): 12; Settling Time: 6µs; Single Supply: Yes; DatasheetVersion: Rev.F; PackageVersion: 042508-A; PackageReference: P-28; PackageDescription: 28-Lead Plastic Leaded Chip Carrier [PLCC]; Supplier 1: Digi-Key; Supplier Part Number 1: DAC8413FPC-ND; Supplier 2: Mouser; Supplier Part Number 2: 584-DAC8413FPC; Packing: Tube; RoHS: N; Mounting Technology: Surface Mount; Code_JEDEC: MO-047-AB; ComponentLink1Description: Manufacturer URL; ComponentLink1URL: http://www.analog.com/en/index.html; ComponentLink2Description: Datasheet; ComponentLink2URL: http://www.analog.com/static/imported-files/data_sheets/DAC8412_8413.pdf; ComponentLink3Description: Package Specification; ComponentLink3URL: http://www.analog.com/static/imported-files/packages/PKG_PDF/PLCC(P)/P_28.pdf; ComponentLink4Description: Product URL; ComponentLink4URL: http://www.analog.com/en/digital-to-analog-converters/da-converters/dac8413/products/product.html
footprint P-28_N (Leaded Chip Carrier, 28-Leads, Body 11.5x11.5mm, Pitch 1.27mm, IPC Medium Density)
footprint P-28_L (Leaded Chip Carrier, 28-Leads, Body 11.5x11.5mm, Pitch 1.27mm, IPC High Density)
footprint P-28_M (Leaded Chip Carrier, 28-Leads, Body 11.5x11.5mm, Pitch 1.27mm, IPC Low Density)
pins: 1 VREFH (in) "High-Side DAC Reference Input.", 2 VOUTB (out) "DAC B Output.", 3 VOUTA (out) "DAC A Output.", 4 VSS (power) "Lower Rail Power Supply.", 5 DGND (power) "Digital Ground.", 6 ~{RESET} (in) "Reset Input and Output Registers to all 0s, Enabled at Active Low.", 7 ~{LDAC} (in) "Load Data to DAC, Enabled at Active Low.", 8 DB0 (io) "Data Bit 0, LSB.", 9 DB1 (io) "Data Bit 1.", 10 DB2 (io) "Data Bit 2.", 11 DB3 (io) "Data Bit 3.", 12 DB4 (io) "Data Bit 4.", 13 DB5 (io) "Data Bit 5.", 14 DB6 (io) "Data Bit 6.", 15 DB7 (io) "Data Bit 7.", 16 DB8 (io) "Data Bit 8.", 17 DB9 (io) "Data Bit 9.", 18 DB10 (io) "Data Bit 10.", 19 DB11 (io) "Data Bit 11, MSB.", 20 R/~{W} (in) "Active Low to Write Data to DAC. Active high to readback previous data at data bit pins with VLOGIC connected to 5 V.", 21 A1 (in) "Address Bit 1.", 22 A0 (in) "Address Bit 0.", 23 ~{CS} (in) "Chip Select, Enabled at Active Low.", 24 VLOGIC (power) "Voltage Supply for Readback Function. Can be open circuit if not used.", 25 VDD (power) "Upper Rail Power Supply.", 26 VOUTD (out) "DAC D Output.", 27 VOUTC (out) "DAC C Output.", 28 VREFL (in) "Low-Side DAC Reference Input."

## DAC8413FPC-REEL
designator U?
Quad 12-Bit Voltage Output Digital-to-Analog Converter with Readback, -40 to +85 degC, P-28, Reel; Generic Part Number: DAC8413; Manufacturer: Analog Devices; PartNumber: DAC8413FPC-REEL; # DAC Outputs: 4; Max V+: 15.75V; Op Pwr Diss: 330mW; Resolution (Bits): 12; Settling Time: 6µs; Single Supply: Yes; DatasheetVersion: Rev.F; PackageVersion: 042508-A; PackageReference: P-28; PackageDescription: 28-Lead Plastic Leaded Chip Carrier [PLCC]; Supplier 1: Digi-Key; Supplier Part Number 1: DAC8413FPC-REEL-ND; Supplier 2: Newark; Supplier Part Number 2: 98B7536; Supplier 3: Mouser; Supplier Part Number 3: 584-DAC8413FPC-R; Packing: Reel; RoHS: N; Mounting Technology: Surface Mount; Code_JEDEC: MO-047-AB; ComponentLink1Description: Manufacturer URL; ComponentLink1URL: http://www.analog.com/en/index.html; ComponentLink2Description: Datasheet; ComponentLink2URL: http://www.analog.com/static/imported-files/data_sheets/DAC8412_8413.pdf; ComponentLink3Description: Package Specification; ComponentLink3URL: http://www.analog.com/static/imported-files/packages/PKG_PDF/PLCC(P)/P_28.pdf; ComponentLink4Description: Product URL; ComponentLink4URL: http://www.analog.com/en/digital-to-analog-converters/da-converters/dac8413/products/product.html
footprint P-28_N (Leaded Chip Carrier, 28-Leads, Body 11.5x11.5mm, Pitch 1.27mm, IPC Medium Density)
footprint P-28_L (Leaded Chip Carrier, 28-Leads, Body 11.5x11.5mm, Pitch 1.27mm, IPC High Density)
footprint P-28_M (Leaded Chip Carrier, 28-Leads, Body 11.5x11.5mm, Pitch 1.27mm, IPC Low Density)
pins: 1 VREFH (in) "High-Side DAC Reference Input.", 2 VOUTB (out) "DAC B Output.", 3 VOUTA (out) "DAC A Output.", 4 VSS (power) "Lower Rail Power Supply.", 5 DGND (power) "Digital Ground.", 6 ~{RESET} (in) "Reset Input and Output Registers to all 0s, Enabled at Active Low.", 7 ~{LDAC} (in) "Load Data to DAC, Enabled at Active Low.", 8 DB0 (io) "Data Bit 0, LSB.", 9 DB1 (io) "Data Bit 1.", 10 DB2 (io) "Data Bit 2.", 11 DB3 (io) "Data Bit 3.", 12 DB4 (io) "Data Bit 4.", 13 DB5 (io) "Data Bit 5.", 14 DB6 (io) "Data Bit 6.", 15 DB7 (io) "Data Bit 7.", 16 DB8 (io) "Data Bit 8.", 17 DB9 (io) "Data Bit 9.", 18 DB10 (io) "Data Bit 10.", 19 DB11 (io) "Data Bit 11, MSB.", 20 R/~{W} (in) "Active Low to Write Data to DAC. Active high to readback previous data at data bit pins with VLOGIC connected to 5 V.", 21 A1 (in) "Address Bit 1.", 22 A0 (in) "Address Bit 0.", 23 ~{CS} (in) "Chip Select, Enabled at Active Low.", 24 VLOGIC (power) "Voltage Supply for Readback Function. Can be open circuit if not used.", 25 VDD (power) "Upper Rail Power Supply.", 26 VOUTD (out) "DAC D Output.", 27 VOUTC (out) "DAC C Output.", 28 VREFL (in) "Low-Side DAC Reference Input."

## DAC8413FPCZ
designator U?
Quad 12-Bit Voltage Output Digital-to-Analog Converter with Readback, P-28, Pb-Free, Tube; Generic Part Number: DAC8413; Manufacturer: Analog Devices; PartNumber: DAC8413FPCZ; # DAC Outputs: 4; Max V+: 15.75V; Op Pwr Diss: 330mW; Resolution (Bits): 12; Settling Time: 6µs; Single Supply: Yes; DatasheetVersion: Rev.F; PackageVersion: 042508-A; PackageReference: P-28; PackageDescription: 28-Lead Plastic Leaded Chip Carrier [PLCC]; Supplier 1: Digi-Key; Supplier Part Number 1: DAC8413FPCZ-ND; Supplier 2: Mouser; Supplier Part Number 2: 584-DAC8413FPCZ; Packing: Tube; RoHS: Y; Mounting Technology: Surface Mount; Code_JEDEC: MO-047-AB; ComponentLink1Description: Manufacturer URL; ComponentLink1URL: http://www.analog.com/en/index.html; ComponentLink2Description: Datasheet; ComponentLink2URL: http://www.analog.com/static/imported-files/data_sheets/DAC8412_8413.pdf; ComponentLink3Description: Package Specification; ComponentLink3URL: http://www.analog.com/static/imported-files/packages/PKG_PDF/PLCC(P)/P_28.pdf; ComponentLink4Description: Product URL; ComponentLink4URL: http://www.analog.com/en/digital-to-analog-converters/da-converters/dac8413/products/product.html
footprint P-28_N (Leaded Chip Carrier, 28-Leads, Body 11.5x11.5mm, Pitch 1.27mm, IPC Medium Density)
footprint P-28_L (Leaded Chip Carrier, 28-Leads, Body 11.5x11.5mm, Pitch 1.27mm, IPC High Density)
footprint P-28_M (Leaded Chip Carrier, 28-Leads, Body 11.5x11.5mm, Pitch 1.27mm, IPC Low Density)
pins: 1 VREFH (in) "High-Side DAC Reference Input.", 2 VOUTB (out) "DAC B Output.", 3 VOUTA (out) "DAC A Output.", 4 VSS (power) "Lower Rail Power Supply.", 5 DGND (power) "Digital Ground.", 6 ~{RESET} (in) "Reset Input and Output Registers to all 0s, Enabled at Active Low.", 7 ~{LDAC} (in) "Load Data to DAC, Enabled at Active Low.", 8 DB0 (io) "Data Bit 0, LSB.", 9 DB1 (io) "Data Bit 1.", 10 DB2 (io) "Data Bit 2.", 11 DB3 (io) "Data Bit 3.", 12 DB4 (io) "Data Bit 4.", 13 DB5 (io) "Data Bit 5.", 14 DB6 (io) "Data Bit 6.", 15 DB7 (io) "Data Bit 7.", 16 DB8 (io) "Data Bit 8.", 17 DB9 (io) "Data Bit 9.", 18 DB10 (io) "Data Bit 10.", 19 DB11 (io) "Data Bit 11, MSB.", 20 R/~{W} (in) "Active Low to Write Data to DAC. Active high to readback previous data at data bit pins with VLOGIC connected to 5 V.", 21 A1 (in) "Address Bit 1.", 22 A0 (in) "Address Bit 0.", 23 ~{CS} (in) "Chip Select, Enabled at Active Low.", 24 VLOGIC (power) "Voltage Supply for Readback Function. Can be open circuit if not used.", 25 VDD (power) "Upper Rail Power Supply.", 26 VOUTD (out) "DAC D Output.", 27 VOUTC (out) "DAC C Output.", 28 VREFL (in) "Low-Side DAC Reference Input."

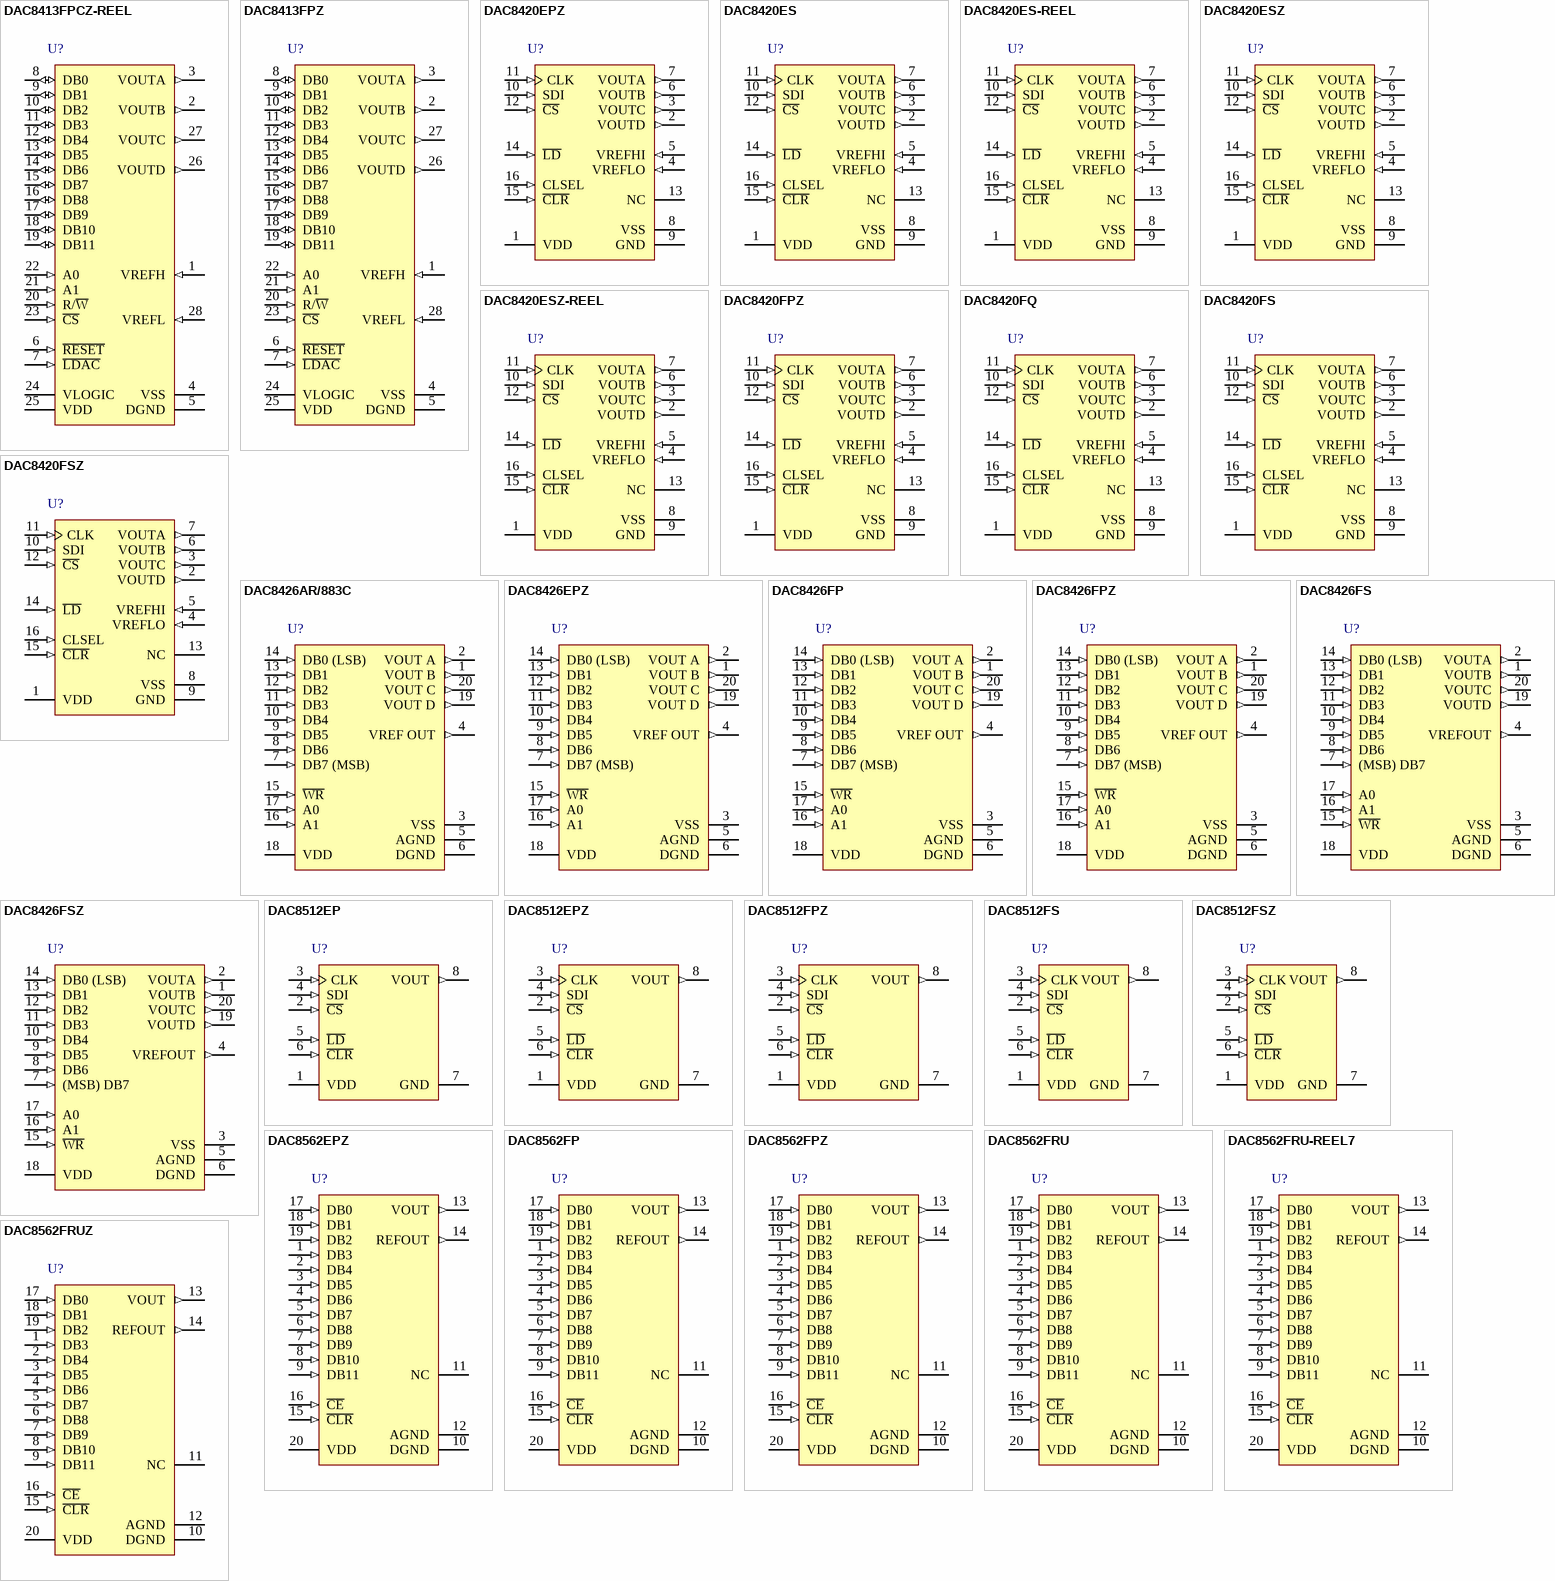
[diagram p113: symbols DAC8413FPCZ-REEL to DAC8562FRUZ]

## DAC8413FPCZ-REEL
designator U?
Quad 12-Bit Voltage Output Digital-to-Analog Converter with Readback, P-28, Pb-Free, Reel; Generic Part Number: DAC8413; Manufacturer: Analog Devices; PartNumber: DAC8413FPCZ-REEL; # DAC Outputs: 4; Max V+: 15.75V; Op Pwr Diss: 330mW; Resolution (Bits): 12; Settling Time: 6µs; Single Supply: Yes; DatasheetVersion: Rev.F; PackageVersion: 042508-A; PackageReference: P-28; PackageDescription: 28-Lead Plastic Leaded Chip Carrier [PLCC]; Supplier 1: Digi-Key; Supplier Part Number 1: DAC8413FPCZ-REEL-ND; Supplier 2: Newark; Supplier Part Number 2: 02P7525; Supplier 3: Mouser; Supplier Part Number 3: 584-DAC8413FPCZ-R; Packing: Reel; RoHS: Y; Mounting Technology: Surface Mount; Code_JEDEC: MO-047-AB; ComponentLink1Description: Manufacturer URL; ComponentLink1URL: http://www.analog.com/en/index.html; ComponentLink2Description: Datasheet; ComponentLink2URL: http://www.analog.com/static/imported-files/data_sheets/DAC8412_8413.pdf; ComponentLink3Description: Package Specification; ComponentLink3URL: http://www.analog.com/static/imported-files/packages/PKG_PDF/PLCC(P)/P_28.pdf; ComponentLink4Description: Product URL; ComponentLink4URL: http://www.analog.com/en/digital-to-analog-converters/da-converters/dac8413/products/product.html
footprint P-28_N (Leaded Chip Carrier, 28-Leads, Body 11.5x11.5mm, Pitch 1.27mm, IPC Medium Density)
footprint P-28_L (Leaded Chip Carrier, 28-Leads, Body 11.5x11.5mm, Pitch 1.27mm, IPC High Density)
footprint P-28_M (Leaded Chip Carrier, 28-Leads, Body 11.5x11.5mm, Pitch 1.27mm, IPC Low Density)
pins: 1 VREFH (in) "High-Side DAC Reference Input.", 2 VOUTB (out) "DAC B Output.", 3 VOUTA (out) "DAC A Output.", 4 VSS (power) "Lower Rail Power Supply.", 5 DGND (power) "Digital Ground.", 6 ~{RESET} (in) "Reset Input and Output Registers to all 0s, Enabled at Active Low.", 7 ~{LDAC} (in) "Load Data to DAC, Enabled at Active Low.", 8 DB0 (io) "Data Bit 0, LSB.", 9 DB1 (io) "Data Bit 1.", 10 DB2 (io) "Data Bit 2.", 11 DB3 (io) "Data Bit 3.", 12 DB4 (io) "Data Bit 4.", 13 DB5 (io) "Data Bit 5.", 14 DB6 (io) "Data Bit 6.", 15 DB7 (io) "Data Bit 7.", 16 DB8 (io) "Data Bit 8.", 17 DB9 (io) "Data Bit 9.", 18 DB10 (io) "Data Bit 10.", 19 DB11 (io) "Data Bit 11, MSB.", 20 R/~{W} (in) "Active Low to Write Data to DAC. Active high to readback previous data at data bit pins with VLOGIC connected to 5 V.", 21 A1 (in) "Address Bit 1.", 22 A0 (in) "Address Bit 0.", 23 ~{CS} (in) "Chip Select, Enabled at Active Low.", 24 VLOGIC (power) "Voltage Supply for Readback Function. Can be open circuit if not used.", 25 VDD (power) "Upper Rail Power Supply.", 26 VOUTD (out) "DAC D Output.", 27 VOUTC (out) "DAC C Output.", 28 VREFL (in) "Low-Side DAC Reference Input."

## DAC8413FPZ
designator U?
Quad 12-Bit Voltage Output Digital-to-Analog Converter with Readback, -40 to +85 degC, N-28-2, Pb-Free, Tube; Generic Part Number: DAC8413; Manufacturer: Analog Devices; PartNumber: DAC8413FPZ; # DAC Outputs: 4; Max V+: 15.75V; Op Pwr Diss: 330mW; Resolution (Bits): 12; Settling Time: 6µs; Single Supply: Yes; DatasheetVersion: Rev.F; PackageVersion: 071006-A; PackageReference: N-28-2; PackageDescription: 28-Lead Plastic Dual In-Line Package [PDIP]; Supplier 1: Digi-Key; Supplier Part Number 1: DAC8413FPZ-ND; Supplier 2: Farnell; Supplier Part Number 2: 1708427; Supplier 3: Newark; Supplier Part Number 3: 59K7944; Supplier 4: Mouser; Supplier Part Number 4: 584-DAC8413FPZ; Packing: Tube; RoHS: Y; Mounting Technology: Through Hole; Code_JEDEC: MS-011; ComponentLink1Description: Manufacturer URL; ComponentLink1URL: http://www.analog.com/en/index.html; ComponentLink2Description: Datasheet; ComponentLink2URL: http://www.analog.com/static/imported-files/data_sheets/DAC8412_8413.pdf; ComponentLink3Description: Package Specification; ComponentLink3URL: http://www.analog.com/static/imported-files/packages/50849324123784N_28_2.pdf; ComponentLink4Description: Product URL; ComponentLink4URL: http://www.analog.com/en/digital-to-analog-converters/da-converters/dac8413/products/product.html
footprint N-28-2 (DIP, 28-Leads, Row Spacing 15.55mm, Pitch 2.54mm, Body 37.4x13.5mm)
pins: 1 VREFH (in) "High-Side DAC Reference Input.", 2 VOUTB (out) "DAC B Output.", 3 VOUTA (out) "DAC A Output.", 4 VSS (power) "Lower Rail Power Supply.", 5 DGND (power) "Digital Ground.", 6 ~{RESET} (in) "Reset Input and Output Registers to all 0s, Enabled at Active Low.", 7 ~{LDAC} (in) "Load Data to DAC, Enabled at Active Low.", 8 DB0 (io) "Data Bit 0, LSB.", 9 DB1 (io) "Data Bit 1.", 10 DB2 (io) "Data Bit 2.", 11 DB3 (io) "Data Bit 3.", 12 DB4 (io) "Data Bit 4.", 13 DB5 (io) "Data Bit 5.", 14 DB6 (io) "Data Bit 6.", 15 DB7 (io) "Data Bit 7.", 16 DB8 (io) "Data Bit 8.", 17 DB9 (io) "Data Bit 9.", 18 DB10 (io) "Data Bit 10.", 19 DB11 (io) "Data Bit 11, MSB.", 20 R/~{W} (in) "Active Low to Write Data to DAC. Active high to readback previous data at data bit pins with VLOGIC connected to 5 V.", 21 A1 (in) "Address Bit 1.", 22 A0 (in) "Address Bit 0.", 23 ~{CS} (in) "Chip Select, Enabled at Active Low.", 24 VLOGIC (power) "Voltage Supply for Readback Function. Can be open circuit if not used.", 25 VDD (power) "Upper Rail Power Supply.", 26 VOUTD (out) "DAC D Output.", 27 VOUTC (out) "DAC C Output.", 28 VREFL (in) "Low-Side DAC Reference Input."